# EAGLE library part ICSP_10P (library CASE-Prog_Header)
ICSP-10P Programming header Description: ICSP-10P Programming header in 2.54mm pin header
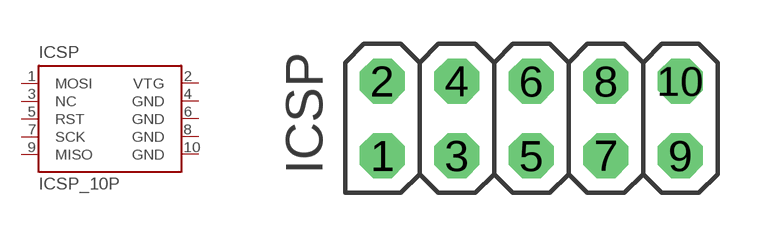
[diagram p2: symbol with the pads of 2X05_ICSP; footprint 2X05_ICSP]

Designator prefix ICSP

## ICSP_10P  [2X05_ICSP]
1  MOSI
2  VTG
3  NC
4  GND
5  RST
6  GND
7  SCK
8  GND
9  MISO
10  GND

## Footprint 2X05_ICSP (pad centres in mm)
PIN HEADER
drill 1.016 octagon: 1 -5.08,-1.27; 2 -5.08,1.27; 3 -2.54,-1.27; 4 -2.54,1.27; 5 0,-1.27; 6 0,1.27; 7 2.54,-1.27; 8 2.54,1.27; 9 5.08,-1.27; 10 5.08,1.27